# Altium footprint library CONN-TH_P3.50_KF2EDGR-3.5-2P.PcbLib: 1 footprints
Each footprint in its own frame and in the unit in brackets; x right, y up, seen from the top. Pads: shape width x height; smd on the part's side, far side on the other; paste and mask are expansions set on the pad; w line width, h text height; cw(c..) or ccw(c..) is an arc to the next point about the centre after c.
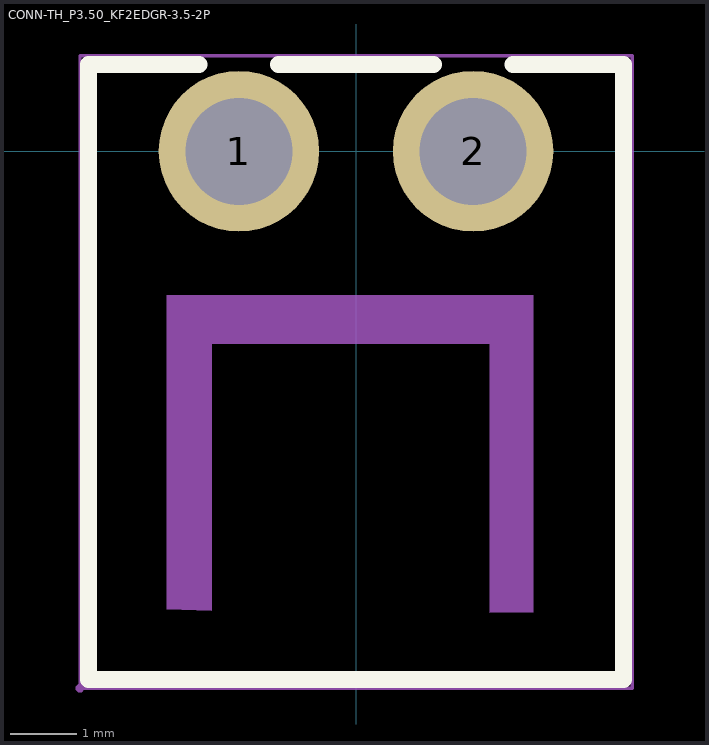
[diagram p0: the footprint, top view; thin cyan lines are the x and y axes]

## CONN-TH_P3.50_KF2EDGR-3.5-2P [mm]
pads (2):
  round 2.4 hole 1.6: 1(-1.75,0) 2(1.75,0)
Top Overlay:
  lines w0.254: -2.345,1.3 -4,1.3 -4,-7.9 4,-7.9 4,1.3 2.345,1.3 ; -1.155,1.3 1.155,1.3
Mechanical 6:
  region: -2.83,-6.85 -2.83,-2.15 2.65,-2.15 2.65,-6.87 2.65,-6.89 2.01,-6.89 2,-6.9 2,-2.88 -2.15,-2.88 -2.16,-2.89 -2.16,-6.85 -2.16,-6.86 -2.16,-6.87
Mechanical 15:
  region: -2.15,0.4 -1.35,0.4 -1.35,-0.4 -2.15,-0.4
  region: 1.35,0.4 2.15,0.4 2.15,-0.4 1.35,-0.4
  region: -4.067,-8.027 -4.067,-8.002 -4.102,-7.967 -4.152,-7.967 -4.187,-8.002 -4.187,-8.027 -4.187,-8.052 -4.152,-8.087 -4.102,-8.087 -4.067,-8.052 -4.067,-8.027
  lines w0.051: -4.127,-8.027 -4.127,1.427 4.127,1.427 4.127,-8.027 -4.127,-8.027